# Altium footprint library MOLEX SDA-70555-7PIN.PCBLIB: 1 footprints
Each footprint in its own frame and in the unit in brackets; x right, y up, seen from the top. Pads: shape width x height; smd on the part's side, far side on the other; paste and mask are expansions set on the pad; w line width, h text height; cw(c..) or ccw(c..) is an arc to the next point about the centre after c.
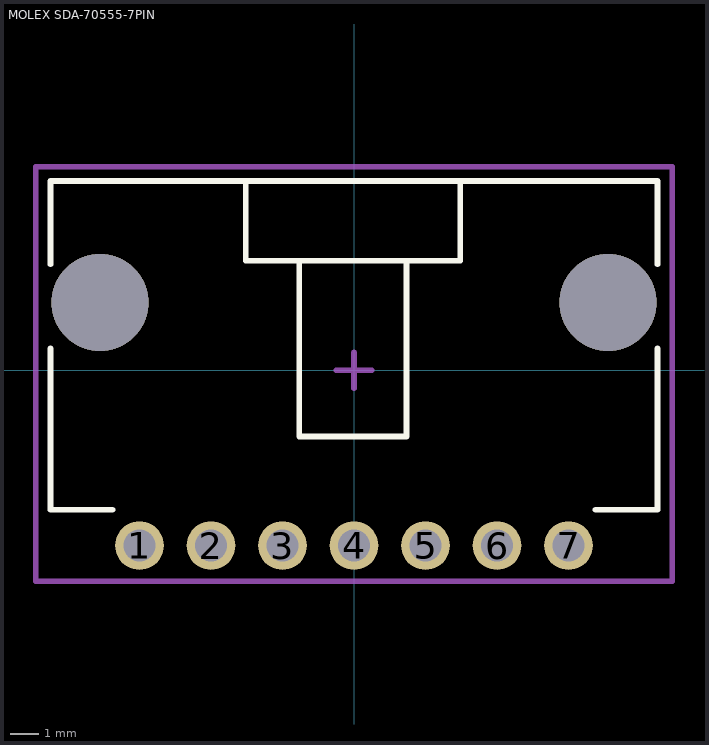
[diagram p0: the footprint, top view; thin cyan lines are the x and y axes]

## MOLEX SDA-70555-7PIN [mm] "SL Right Angle Header W/LAtch & Trip-Pegs 2.54mm Centres"
height 6.99
pads (7):
  round 1.73 hole 1.13: 1(-7.62,-6.223) 2(-5.08,-6.223) 3(-2.54,-6.223) 4(0,-6.223) 5(2.54,-6.223) 6(5.08,-6.223) 7(7.62,-6.223)
via -9.02,2.417 diameter 3.45 hole 3.45
via 9.02,2.417 diameter 3.45 hole 3.45
Top Overlay:
  lines w0.2: -10.78,0.777 -10.78,-4.953 -8.58,-4.953 ; -10.78,3.777 -10.78,6.731 10.78,6.731 10.78,3.777 ; -3.85,6.731 -3.85,3.892 3.77,3.892 3.77,6.731 ; -1.945,3.892 -1.945,-2.346 1.865,-2.346 1.865,3.892 ; 8.58,-4.953 10.78,-4.953 10.78,0.777
Mechanical 15:
  lines w0.2: -0.635,0 0.635,0 ; 0,-0.635 0,0.635 ; -11.303,-7.493 -11.303,7.239 11.303,7.239 11.303,-7.493 -11.303,-7.493
3D body "705550006.STEP": height 6.98, standoff -3.3, extent -10.795,-6.923 10.795,6.666